# Altium footprint library stm32cbt6.PcbLib: 10 footprints
Each footprint in its own frame and in the unit in brackets; x right, y up, seen from the top. Pads: shape width x height; smd on the part's side, far side on the other; paste and mask are expansions set on the pad; w line width, h text height; cw(c..) or ccw(c..) is an arc to the next point about the centre after c.
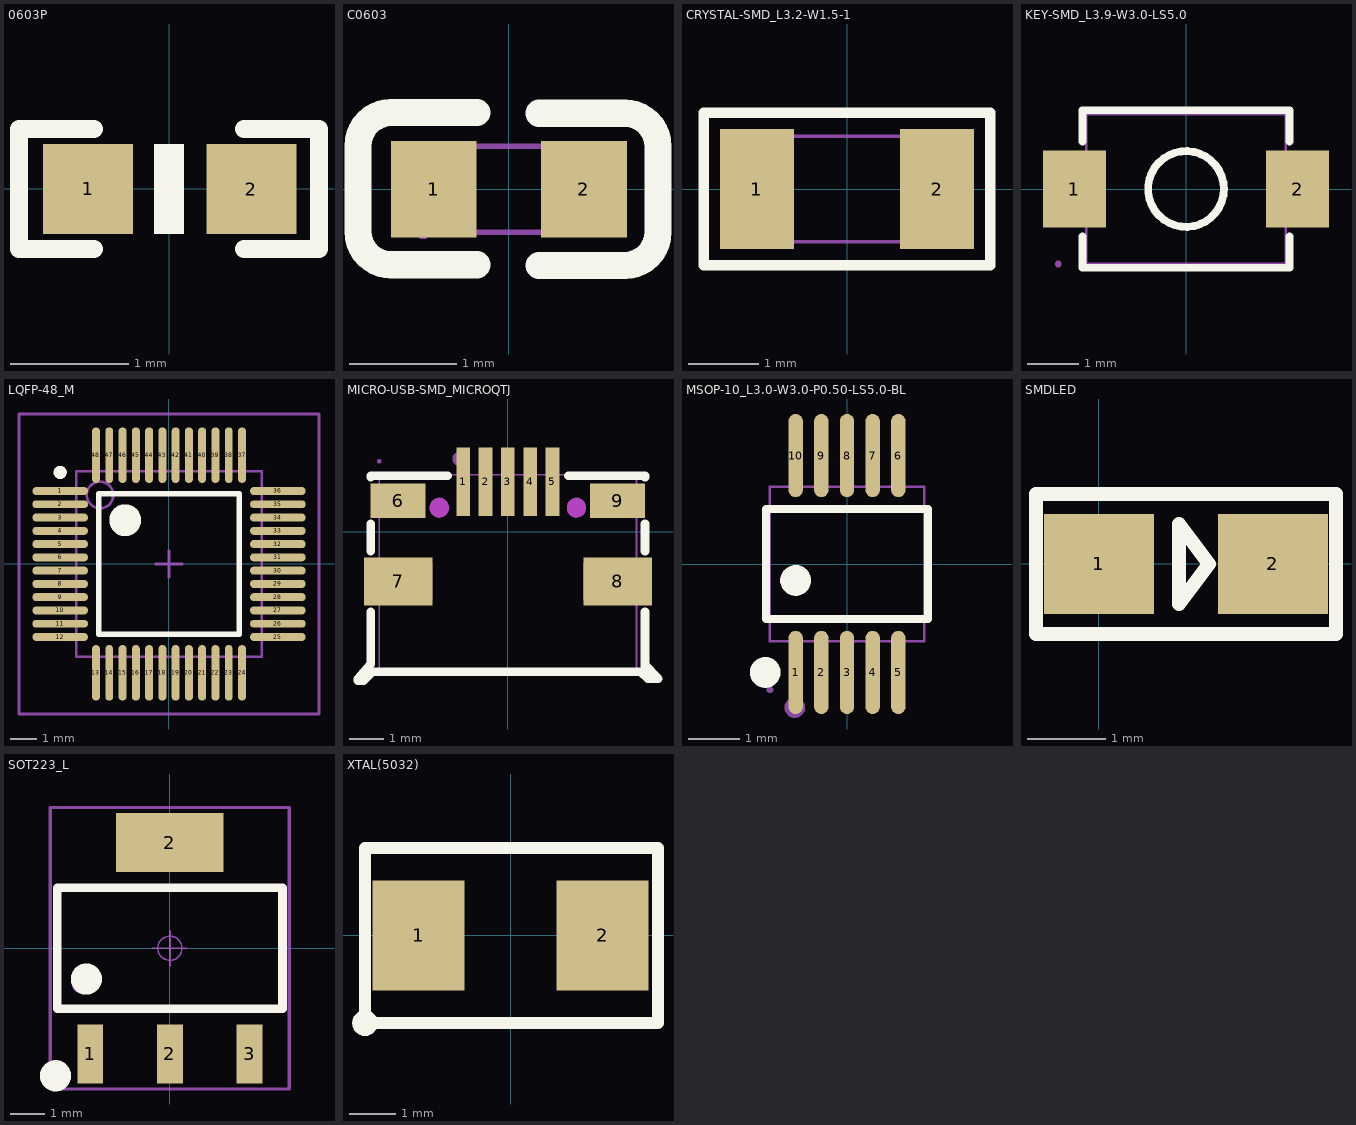
[diagram p0: the footprints below, top view; thin cyan lines are the x and y axes]

## 0603P [mil]
pads (2):
  rect 30x30 smd: 1(-27,0) 2(27.5,-0.06)
Top Overlay:
  region: 5,-15.06 5,14.94 -5,14.94 -5,-15.06
  lines w6: -25,-20.06 -50,-20.06 -50,19.94 -25,19.94 ; 25,-20.06 50,-20.06 50,19.94 25,19.94

## C0603 [mm]
pads (2):
  rect 0.8x0.9 smd mask+0.051: 1(-0.7,0) 2(0.7,0)
Top Overlay:
  lines w0.254: -0.296,-0.704 -1.096,-0.704 cw(c-1.096,-0.394) -1.406,-0.394 -1.405,0.406 cw(c-1.096,0.406) -1.096,0.715 -0.296,0.715 ; 0.28,-0.71 1.08,-0.71 ccw(c1.08,-0.4) 1.39,-0.4 1.39,0.4 ccw(c1.08,0.4) 1.08,0.71 0.28,0.71
Mechanical 15:
  region: 0.8,-0.4 0.8,0.4 0.5,0.4 0.5,-0.4
  region: -0.8,-0.4 -0.8,0.4 -0.5,0.4 -0.5,-0.4
  region: -0.74,-0.4 -0.74,-0.375 -0.775,-0.34 -0.825,-0.34 -0.86,-0.375 -0.86,-0.4 -0.86,-0.425 -0.825,-0.46 -0.775,-0.46 -0.74,-0.425 -0.74,-0.4
  lines w0.051: -0.8,-0.4 0.8,-0.4 0.8,0.4 -0.8,0.4 -0.8,-0.4

## CRYSTAL-SMD_L3.2-W1.5-1 [mm]
pads (2):
  rect 1.049x1.699 smd mask+0.051: 1(-1.275,0) 2(1.275,0)
Top Overlay:
  lines w0.152: -2.029,-1.079 -2.029,1.079 2.029,1.079 2.029,-1.079 -2.029,-1.079
Mechanical 15:
  region: -1.539,-0.749 -1.539,-0.724 -1.575,-0.688 -1.625,-0.688 -1.661,-0.724 -1.661,-0.749 -1.661,-0.775 -1.625,-0.81 -1.575,-0.81 -1.539,-0.775 -1.539,-0.749
  region: -1.45,0.65 -0.851,0.65 -0.851,-0.65 -1.45,-0.65
  region: 0.851,0.65 1.45,0.65 1.45,-0.65 0.851,-0.65
  lines w0.051: -1.6,-0.749 -1.6,0.749 1.6,0.749 1.6,-0.749 -1.6,-0.749

## KEY-SMD_L3.9-W3.0-LS5.0 [mil]
pads (2):
  rect 48.4x59.1 smd mask+2: 1(-86,0) 2(86,0)
Top Overlay:
  circle w6: c0,0 r29.2
  lines w6: -79.8,-36.6 -79.8,-60.7 79.8,-60.7 79.8,-36.6 ; -79.8,36.6 -79.8,60.7 79.8,60.7 79.8,36.6
Mechanical 15:
  region: 70.9,25.6 98.4,25.6 98.4,-25.6 70.9,-25.6
  region: -98.4,25.6 -70.9,25.6 -70.9,-25.6 -98.4,-25.6
  region: -96,-57.7 -96,-56.71 -97.41,-55.3 -99.39,-55.3 -100.8,-56.71 -100.8,-57.7 -100.8,-58.69 -99.39,-60.1 -97.41,-60.1 -96,-58.69 -96,-57.7
  lines w2: -76.8,-57.7 -76.8,57.7 76.8,57.7 76.8,-57.7 -76.8,-57.7

## LQFP-48_M [mm] "Thin QFP, 48-Leads, Body 7x7mm, Pitch 0.5mm, IPC Low Density"
height 1.6
pads (48):
  oval 2.1x0.3 smd: 1(-4.1,2.75) 2(-4.1,2.25) 3(-4.1,1.75) 4(-4.1,1.25) 5(-4.1,0.75) 6(-4.1,0.25) 7(-4.1,-0.25) 8(-4.1,-0.75) 9(-4.1,-1.25) 10(-4.1,-1.75) 11(-4.1,-2.25) 12(-4.1,-2.75) 25(4.1,-2.75) 26(4.1,-2.25) 27(4.1,-1.75) 28(4.1,-1.25) 29(4.1,-0.75) 30(4.1,-0.25) 31(4.1,0.25) 32(4.1,0.75) 33(4.1,1.25) 34(4.1,1.75) 35(4.1,2.25) 36(4.1,2.75)
  oval 0.3x2.1 smd: 13(-2.75,-4.1) 14(-2.25,-4.1) 15(-1.75,-4.1) 16(-1.25,-4.1) 17(-0.75,-4.1) 18(-0.25,-4.1) 19(0.25,-4.1) 20(0.75,-4.1) 21(1.25,-4.1) 22(1.75,-4.1) 23(2.25,-4.1) 24(2.75,-4.1) 37(2.75,4.1) 38(2.25,4.1) 39(1.75,4.1) 40(1.25,4.1) 41(0.75,4.1) 42(0.25,4.1) 43(-0.25,4.1) 44(-0.75,4.1) 45(-1.25,4.1) 46(-1.75,4.1) 47(-2.25,4.1) 48(-2.75,4.1)
Top Overlay:
  circle w0.25: c-4.1,3.45 r0.125
  circle w0.6: c-1.65,1.65 r0.3
  lines w0.2: -2.65,-2.65 -2.65,2.65 2.65,2.65 2.65,-2.65 -2.65,-2.65
Mechanical 13:
  circle w0.1: c-2.6,2.6 r0.5
  lines w0.1: -3.5,-3.5 -3.5,3.5 3.5,3.5 3.5,-3.5 -3.5,-3.5
Mechanical 15:
  lines w0.1: -0.5,0 0.5,0 ; 0,-0.5 0,0.5 ; -5.65,-5.65 -5.65,5.65 5.65,5.65 5.65,-5.65 -5.65,-5.65
3D body: height 1.6, standoff 0, extent -3.5,-3.5 3.5,3.5

## MICRO-USB-SMD_MICROQTJ [mm]
pads (9):
  rect 0.4x2 smd mask+0.051: 1(-1.3,1.452) 2(-0.65,1.452) 3(0,1.452) 4(0.65,1.452) 5(1.3,1.452)
  rect 1.6x1 smd mask+0.051: 6(-3.2,0.902) 9(3.2,0.902)
  rect 2x1.4 smd mask+0.051: 7(-3.2,-1.452) 8(3.2,-1.452)
Top Overlay:
  lines w0.254: -4.011,-3.869 -4.369,-4.288 -4.369,-4.339 -4.204,-4.339 -3.946,-4.081 3.878,-4.081 4.084,-4.288 4.376,-4.288 3.99,-3.869 ; -4,-3.869 -4,-2.398 -4,-2.333 ; -4,-0.571 -4,0.221 ; -4,1.583 -4,1.633 -1.758,1.633 ; 1.758,1.633 4,1.633 4,1.583 ; 4,-3.991 4,-2.398 4,-2.333 ; 4,-0.571 4,0.221
Keep-Out Layer:
  board cut-out: -1.725,0.698 -1.725,0.753 -1.767,0.854 -1.844,0.931 -1.946,0.973 -2.055,0.973 -2.156,0.931 -2.233,0.854 -2.275,0.753 -2.275,0.698 -2.275,0.643 -2.233,0.542 -2.156,0.465 -2.055,0.423 -1.946,0.423 -1.844,0.465 -1.767,0.542 -1.725,0.643 -1.725,0.698
  board cut-out: 2.275,0.698 2.275,0.753 2.233,0.854 2.156,0.931 2.054,0.973 1.945,0.973 1.844,0.931 1.767,0.854 1.725,0.753 1.725,0.698 1.725,0.643 1.767,0.542 1.844,0.465 1.945,0.423 2.054,0.423 2.156,0.465 2.233,0.542 2.275,0.643 2.275,0.698
Mechanical 1:
  circle w0.005: c-2,0.698 r0.275
  circle w0.005: c2,0.698 r0.275
Mechanical 6:
  circle w0.2: c-1.421,2.122 r0.1
  circle w0.27: c2,0.698 r0.135
  circle w0.27: c-2,0.698 r0.135
Mechanical 15:
  region: -3.69,2.053 -3.69,2.077 -3.725,2.113 -3.775,2.113 -3.81,2.077 -3.81,2.053 -3.81,2.028 -3.775,1.993 -3.725,1.993 -3.69,2.028 -3.69,2.053
  region: -3.75,1.252 -2.45,1.252 -2.45,0.552 -3.75,0.552
  region: 2.45,1.252 3.75,1.252 3.75,0.552 2.45,0.552
  region: -3.75,-0.902 -2.2,-0.902 -2.2,-2.002 -3.75,-2.002
  region: 2.2,-0.902 3.75,-0.902 3.75,-2.002 2.2,-2.002
  region: -1.425,0.953 -1.425,2.053 -1.175,2.053 -1.175,0.953
  region: -0.775,0.953 -0.775,2.053 -0.525,2.053 -0.525,0.953
  region: -0.125,0.953 -0.125,2.053 0.125,2.053 0.125,0.953
  region: 0.525,0.953 0.525,2.053 0.775,2.053 0.775,0.953
  region: 1.175,0.953 1.175,2.053 1.425,2.053 1.425,0.953
  lines w0.051: -3.75,-4.143 3.75,-4.143 3.75,1.657 -3.75,1.657 -3.75,-4.143

## MSOP-10_L3.0-W3.0-P0.50-LS5.0-BL [mm]
pads (10):
  oval 0.28x1.62 smd mask+0.051: 1(-1,-2.11) 2(-0.5,-2.11) 3(0,-2.11) 4(0.5,-2.11) 5(1,-2.11) 6(1,2.11) 7(0.5,2.11) 8(0,2.11) 9(-0.5,2.11) 10(-1,2.11)
Top Overlay:
  circle w0.3: c-1.592,-2.11 r0.15
  circle w0.3: c-1,-0.319 r0.15
  lines w0.152: -1.576,-1.071 1.576,-1.071 1.576,1.071 -1.576,1.071 -1.576,-1.071
Mechanical 6:
  circle w0.2: c-1.016,-2.794 r0.1
Mechanical 15:
  region: 0.888,1.91 0.888,1.49 1.112,1.49 1.112,1.91
  region: 0.888,2.45 0.888,1.9 1.112,1.9 1.112,2.45
  region: 0.388,1.91 0.388,1.49 0.612,1.49 0.612,1.91
  region: 0.388,2.45 0.388,1.9 0.612,1.9 0.612,2.45
  region: -0.112,1.91 -0.112,1.49 0.112,1.49 0.112,1.91
  region: -0.112,2.45 -0.112,1.9 0.112,1.9 0.112,2.45
  region: -0.612,1.91 -0.612,1.49 -0.388,1.49 -0.388,1.91
  region: -0.612,2.45 -0.612,1.9 -0.388,1.9 -0.388,2.45
  region: -1.112,1.91 -1.112,1.49 -0.888,1.49 -0.888,1.91
  region: -1.112,2.45 -1.112,1.9 -0.888,1.9 -0.888,2.45
  region: 0.888,-1.91 0.888,-1.49 1.112,-1.49 1.112,-1.91
  region: 0.888,-2.45 0.888,-1.9 1.112,-1.9 1.112,-2.45
  region: 0.388,-1.91 0.388,-1.49 0.612,-1.49 0.612,-1.91
  region: 0.388,-2.45 0.388,-1.9 0.612,-1.9 0.612,-2.45
  region: -0.112,-1.91 -0.112,-1.49 0.112,-1.49 0.112,-1.91
  region: -0.112,-2.45 -0.112,-1.9 0.112,-1.9 0.112,-2.45
  region: -0.612,-1.91 -0.612,-1.49 -0.388,-1.49 -0.388,-1.91
  region: -0.612,-2.45 -0.612,-1.9 -0.388,-1.9 -0.388,-2.45
  region: -1.112,-1.91 -1.112,-1.49 -0.888,-1.49 -0.888,-1.91
  region: -1.112,-2.45 -1.112,-1.9 -0.888,-1.9 -0.888,-2.45
  region: -1.44,-2.45 -1.44,-2.425 -1.475,-2.39 -1.525,-2.39 -1.56,-2.425 -1.56,-2.45 -1.56,-2.475 -1.525,-2.51 -1.475,-2.51 -1.44,-2.475 -1.44,-2.45
  lines w0.051: -1.5,-1.5 1.5,-1.5 1.5,1.5 -1.5,1.5 -1.5,-1.5

## SMDLED [mm]
pads (2):
  rect 1.4x1.27 smd: 1(0.001,-0.002) 2(2.211,-0.002)
Top Overlay:
  lines w0.178: 3.012,0.887 3.011,0.887 ; 3.011,0.887 -0.799,0.887 -0.799,-0.002 -0.799,-0.891 3.011,-0.891 3.011,0.887 ; 1.017,-0.51 1.398,-0.002 1.017,0.506 1.017,-0.51

## SOT223_L [mm] "6.4x7x1.6mm(长宽高)"
height 1.7
pads (4):
  rect 0.75x1.7 smd: 1(-2.3,-3.048) 2(0,-3.048) 3(2.3,-3.048)
  rect 3.1x1.7 smd: 2(0,3.048)
Top Overlay:
  circle w0.5: c-2.413,-0.889 r0.2
  circle w0.5: c-3.302,-3.683 r0.2
  lines w0.25: -3.25,-1.75 -3.25,1.75 3.25,1.75 3.25,-1.75 -3.25,-1.75
Mechanical 13:
  circle w0.1: c-2.536,-1.016 r0.25
  lines w0.1: -3.25,-1.75 -3.25,1.75 3.25,1.75 3.25,-1.75 -3.25,-1.75
Mechanical 15:
  circle w0.05: c0,0 r0.35
  lines w0.05: -0.5,0 0.5,0 ; 0,-0.5 0,0.5
  lines w0.1: -3.45,-4.064 -3.45,4.064 3.45,4.064 3.45,-4.064 -3.45,-4.064
3D body "SOT223.STEP": height 1.65, standoff -0.02, extent -3.25,-3.508 3.25,3.508

## XTAL(5032) [mm]
pads (2):
  rect 2x2.4 smd: 1(-2,0) 2(2,0)
Top Overlay:
  lines w0.254: -3.168,1.854 -3.168,-1.905 3.207,-1.905 3.207,1.854 ; -3.168,1.905 3.207,1.905 ; -3.019,-1.935 cw(c-3.168,-1.905) -3.016,-1.905